# EAGLE library part ADM1177-1ARMZ-R7 (library SamacSys_Parts)
Hot Swap Voltage Controllers ON Pin + Auto-Retry IC. Source: Datasheet <https://www.mouser.in/datasheet/2/609/ADM1177-1503109.pdf>
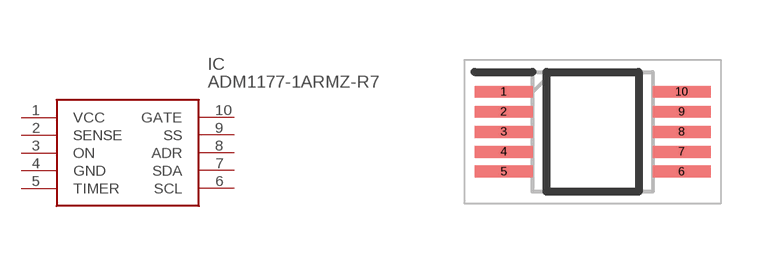
[diagram p0: symbol with the pads of SOP50P490X110-10N; footprint SOP50P490X110-10N]

Designator prefix IC

## ADM1177-1ARMZ-R7 (Description: Hot Swap Voltage Controllers ON Pin + Auto-Retry IC.; Height: 1.1mm; Manufacturer_Name: Analog Devices; Manufacturer_Part_Number: ADM1177-1ARMZ-R7; Mouser_Part_Number: 584-ADM1177-1ARMZ-R7; Mouser_Price-Stock: https://www.mouser.co.uk/ProductDetail/Analog-Devices/ADM1177-1ARMZ-R7/?qs=BpaRKvA4VqF3cWVazI3p3A%3D%3D)  [SOP50P490X110-10N]
1  VCC
2  SENSE
3  ON
4  GND
5  TIMER
6  SCL
7  SDA
8  ADR
9  SS
10  GATE

## Footprint SOP50P490X110-10N (pad centres in mm)
10-Lead Mini Small Outline Package [MSOP] (RM-10)
smd 1.45 x 0.3: 1 -2.225,1; 2 -2.225,0.5; 3 -2.225,0; 4 -2.225,-0.5; 5 -2.225,-1; 6 2.225,-1; 7 2.225,-0.5; 8 2.225,0; 9 2.225,0.5; 10 2.225,1